# EAGLE library part MCP2542 (library HKCV4)
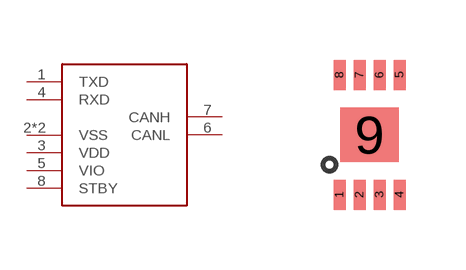
[diagram p2: symbol with the pads of TDFN; footprint TDFN]

Designator prefix -

## MCP2542  [TDFN]
1  TXD
2  VSS
3  VDD
4  RXD
5  VIO
6  CANL
7  CANH
8  STBY
9  VSS

## Footprint TDFN (pad centres in mm)
smd 0.3 x 0.75: 1 0,-3; 2 0.5,-3; 3 1,-3; 4 1.5,-3; 5 1.5,0; 6 1,0; 7 0.5,0; 8 0,0
smd 1.46 x 1.36: 9 0.75,-1.5